# Altium schematic symbol library PS v1.0.SchLib: 6 symbols
Pins are listed as number, name and electrical type; pins without a type are passive.

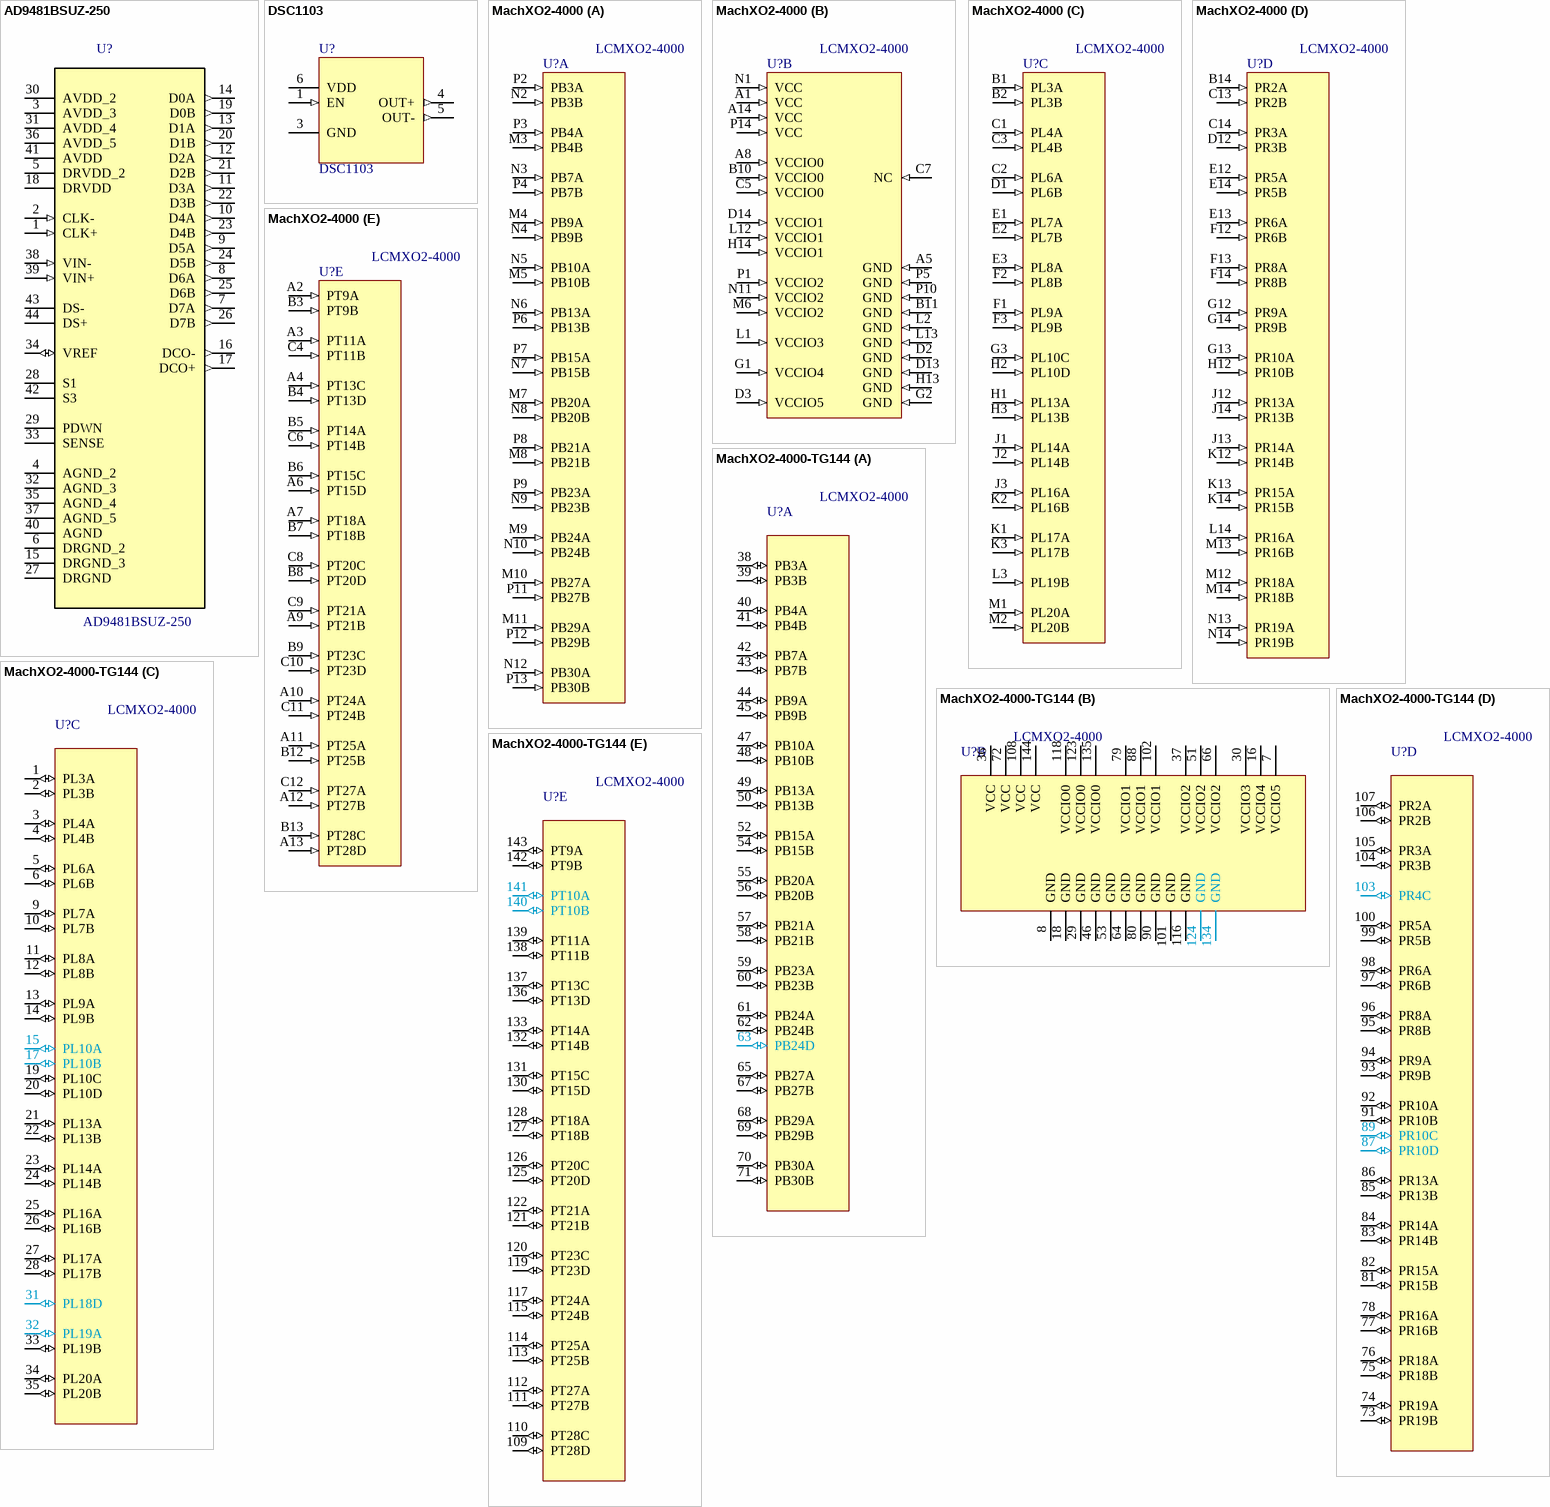
[diagram p0: symbols AD9481BSUZ-250 to MachXO2-4000-TG144]

## AD9481BSUZ-250
designator U?
Single ADC Pipelined 250Msps 8-bit Parallel/LVDS 44-Pin TQFP Tray; VENDOR: DigiKey; MANF: Analog Devices Inc.; VENDOR_PN: AD9481BSUZ-250-ND; MANF_PN: AD9481BSUZ-250
footprint QFP80P1200X1200X120-44N
pins: 1 CLK+ (in), 2 CLK- (in), 3 AVDD_3 (power), 4 AGND_2, 5 DRVDD_2 (power), 6 DRGND_2, 7 D7A (out), 8 D6A (out), 9 D5A (out), 10 D4A (out), 11 D3A (out), 12 D2A (out), 13 D1A (out), 14 D0A (out), 15 DRGND_3, 16 DCO- (out), 17 DCO+ (out), 18 DRVDD (power), 19 D0B (out), 20 D1B (out), 21 D2B (out), 22 D3B (out), 23 D4B (out), 24 D5B (out), 25 D6B (out), 26 D7B (out), 27 DRGND, 28 S1, 29 PDWN, 30 AVDD_2 (power), 31 AVDD_4 (power), 32 AGND_3, 33 SENSE, 34 VREF (io), 35 AGND_4, 36 AVDD_5 (power), 37 AGND_5, 38 VIN- (in), 39 VIN+ (in), 40 AGND, 41 AVDD (power), 42 S3, 43 DS-, 44 DS+

## DSC1103
designator U?
VENDOR: Mouser; MANF: Microchip Technology; MANF_PN: DSC1103CI3-250.0000; VENDOR_PN: 579-1103CI32500000
footprint MCHP_H5A (6-VDFN, 3.2x2.5mm (Microchip Case H5A))
pins: 1 EN (in), 3 GND (power), 4 OUT+ (out), 5 OUT- (out), 6 VDD (power)

## MachXO2-4000
designator U?, comment LCMXO2-4000
MANF_PN: LCMXO2-4000HC-4MG132C; MANF: Lattice Semiconductor; VENDOR: DigiKey; VENDOR_PN: 220-1458-ND
footprint 132_Ball_csBGA_MachXO2 (BGA, 132-Leads, Body 8.00x8.00mmx1.35mm, Pitch 0.50mm)
part A pins: M3 PB4B (in), M4 PB9A (in), M5 PB10B (in), M7 PB20A (in), M8 PB21B (in), M9 PB24A (in), M10 PB27A (in), M11 PB29A (in), N2 PB3B (in), N3 PB7A (in), N4 PB9B (in), N5 PB10A (in), N6 PB13A (in), N7 PB15B (in), N8 PB20B (in), N9 PB23B (in), N10 PB24B (in), N12 PB30A (in), P2 PB3A (in), P3 PB4A (in), P4 PB7B (in), P6 PB13B (in), P7 PB15A (in), P8 PB21A (in), P9 PB23A (in), P11 PB27B (in), P12 PB29B (in), P13 PB30B (in)
part B pins: A1 VCC (in), A5 GND (in), A8 VCCIO0 (in), A14 VCC (in), B10 VCCIO0 (in), B11 GND (in), C5 VCCIO0 (in), C7 NC (in), D2 GND (in), D3 VCCIO5 (in), D13 GND (in), D14 VCCIO1 (in), G1 VCCIO4 (in), G2 GND (in), H13 GND (in), H14 VCCIO1 (in), L1 VCCIO3 (in), L2 GND (in), L12 VCCIO1 (in), L13 GND (in), M6 VCCIO2 (in), N1 VCC (in), N11 VCCIO2 (in), P1 VCCIO2 (in), P5 GND (in), P10 GND (in), P14 VCC (in)
part C pins: B1 PL3A (in), B2 PL3B (in), C1 PL4A (in), C2 PL6A (in), C3 PL4B (in), D1 PL6B (in), E1 PL7A (in), E2 PL7B (in), E3 PL8A (in), F1 PL9A (in), F2 PL8B (in), F3 PL9B (in), G3 PL10C (in), H1 PL13A (in), H2 PL10D (in), H3 PL13B (in), J1 PL14A (in), J2 PL14B (in), J3 PL16A (in), K1 PL17A (in), K2 PL16B (in), K3 PL17B (in), L3 PL19B (in), M1 PL20A (in), M2 PL20B (in)
part D pins: B14 PR2A (in), C13 PR2B (in), C14 PR3A (in), D12 PR3B (in), E12 PR5A (in), E13 PR6A (in), E14 PR5B (in), F12 PR6B (in), F13 PR8A (in), F14 PR8B (in), G12 PR9A (in), G13 PR10A (in), G14 PR9B (in), H12 PR10B (in), J12 PR13A (in), J13 PR14A (in), J14 PR13B (in), K12 PR14B (in), K13 PR15A (in), K14 PR15B (in), L14 PR16A (in), M12 PR18A (in), M13 PR16B (in), M14 PR18B (in), N13 PR19A (in), N14 PR19B (in)
part E pins: A2 PT9A (in), A3 PT11A (in), A4 PT13C (in), A6 PT15D (in), A7 PT18A (in), A9 PT21B (in), A10 PT24A (in), A11 PT25A (in), A12 PT27B (in), A13 PT28D (in), B3 PT9B (in), B4 PT13D (in), B5 PT14A (in), B6 PT15C (in), B7 PT18B (in), B8 PT20D (in), B9 PT23C (in), B12 PT25B (in), B13 PT28C (in), C4 PT11B (in), C6 PT14B (in), C8 PT20C (in), C9 PT21A (in), C10 PT23D (in), C11 PT24B (in), C12 PT27A (in)

## MachXO2-4000-TG144
designator U?, comment LCMXO2-4000
MANF_PN: LCMXO2-4000HC-4TG144C; MANF: Lattice Semiconductor Corporation; VENDOR: DigiKey; VENDOR_PN: 220-1460-ND
footprint UL_TQFP144
part A pins: 38 PB3A (io), 39 PB3B (io), 40 PB4A (io), 41 PB4B (io), 42 PB7A (io), 43 PB7B (io), 44 PB9A (io), 45 PB9B (io), 47 PB10A (io), 48 PB10B (io), 49 PB13A (io), 50 PB13B (io), 52 PB15A (io), 54 PB15B (io), 55 PB20A (io), 56 PB20B (io), 57 PB21A (io), 58 PB21B (io), 59 PB23A (io), 60 PB23B (io), 61 PB24A (io), 62 PB24B (io), 63 PB24D (io), 65 PB27A (io), 67 PB27B (io), 68 PB29A (io), 69 PB29B (io), 70 PB30A (io), 71 PB30B (io)
part B pins: 7 VCCIO5 (power), 8 GND (power), 16 VCCIO4 (power), 18 GND (power), 29 GND (power), 30 VCCIO3 (power), 36 VCC (power), 37 VCCIO2 (power), 46 GND (power), 51 VCCIO2 (power), 53 GND (power), 64 GND (power), 66 VCCIO2 (power), 72 VCC (power), 79 VCCIO1 (power), 80 GND (power), 88 VCCIO1 (power), 90 GND (power), 101 GND (power), 102 VCCIO1 (power), 108 VCC (power), 116 GND (power), 118 VCCIO0 (power), 123 VCCIO0 (power), 124 GND (power), 134 GND (power), 135 VCCIO0 (power), 144 VCC (power)
part C pins: 1 PL3A (io), 2 PL3B (io), 3 PL4A (io), 4 PL4B (io), 5 PL6A (io), 6 PL6B (io), 9 PL7A (io), 10 PL7B (io), 11 PL8A (io), 12 PL8B (io), 13 PL9A (io), 14 PL9B (io), 15 PL10A (io), 17 PL10B (io), 19 PL10C (io), 20 PL10D (io), 21 PL13A (io), 22 PL13B (io), 23 PL14A (io), 24 PL14B (io), 25 PL16A (io), 26 PL16B (io), 27 PL17A (io), 28 PL17B (io), 31 PL18D (io), 32 PL19A (io), 33 PL19B (io), 34 PL20A (io), 35 PL20B (io)
part D pins: 73 PR19B (io), 74 PR19A (io), 75 PR18B (io), 76 PR18A (io), 77 PR16B (io), 78 PR16A (io), 81 PR15B (io), 82 PR15A (io), 83 PR14B (io), 84 PR14A (io), 85 PR13B (io), 86 PR13A (io), 87 PR10D (io), 89 PR10C (io), 91 PR10B (io), 92 PR10A (io), 93 PR9B (io), 94 PR9A (io), 95 PR8B (io), 96 PR8A (io), 97 PR6B (io), 98 PR6A (io), 99 PR5B (io), 100 PR5A (io), 103 PR4C (io), 104 PR3B (io), 105 PR3A (io), 106 PR2B (io), 107 PR2A (io)
part E pins: 109 PT28D (io), 110 PT28C (io), 111 PT27B (io), 112 PT27A (io), 113 PT25B (io), 114 PT25A (io), 115 PT24B (io), 117 PT24A (io), 119 PT23D (io), 120 PT23C (io), 121 PT21B (io), 122 PT21A (io), 125 PT20D (io), 126 PT20C (io), 127 PT18B (io), 128 PT18A (io), 130 PT15D (io), 131 PT15C (io), 132 PT14B (io), 133 PT14A (io), 136 PT13D (io), 137 PT13C (io), 138 PT11B (io), 139 PT11A (io), 140 PT10B (io), 141 PT10A (io), 142 PT9B (io), 143 PT9A (io)

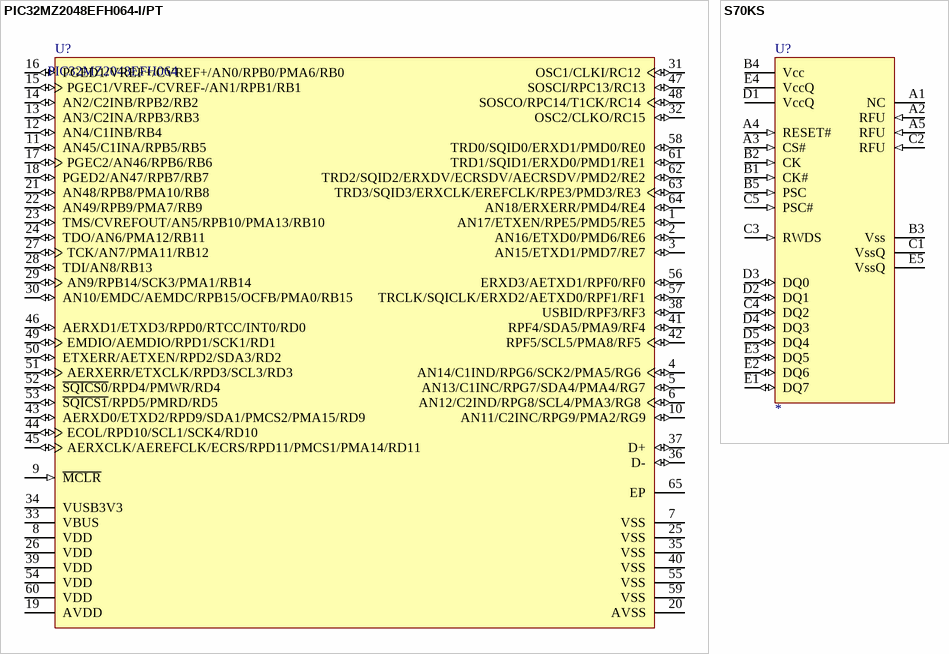
[diagram p1: symbols PIC32MZ2048EFH064-I/PT to S70KS]

## PIC32MZ2048EFH064-I/PT
designator U?, comment PIC32MZ2048EFH064
Microchip PIC32MZ EF Series 64-pin; VENDOR_PN: PIC32MZ2048EFH064-I/PT-ND; MANF_PN: PIC32MZ2048EFH064-I/PT; MANF: Microchip Technology; VENDOR: DigiKey
footprint QFN50P900X900-64N (QFN, 64-Leads, Body 9.00x9.00mm, Pitch 0.50mm, IPC Medium Density)
pins: 1 AN17/ETXEN/RPE5/PMD5/RE5 (io), 2 AN16/ETXD0/PMD6/RE6 (io), 3 AN15/ETXD1/PMD7/RE7 (io), 4 AN14/C1IND/RPG6/SCK2/PMA5/RG6 (io), 5 AN13/C1INC/RPG7/SDA4/PMA4/RG7 (io), 6 AN12/C2IND/RPG8/SCL4/PMA3/RG8 (io), 7 VSS (power) "Ground reference for logic, I/O pins, and USB. This pin must be connected at all times.", 8 VDD (power) "Positive supply for peripheral logic and I/O pins. This pin must be connected at all times.", 9 ~{MCLR} (in) "Master Clear (Reset) input. This pin is an active-low Reset to the device.", 10 AN11/C2INC/RPG9/PMA2/RG9 (io), 11 AN45/C1INA/RPB5/RB5 (io), 12 AN4/C1INB/RB4 (io), 13 AN3/C2INA/RPB3/RB3 (io), 14 AN2/C2INB/RPB2/RB2 (io), 15 PGEC1/VREF-/CVREF-/AN1/RPB1/RB1 (io), 16 PGED1/VREF+/CVREF+/AN0/RPB0/PMA6/RB0 (io), 17 PGEC2/AN46/RPB6/RB6 (io), 18 PGED2/AN47/RPB7/RB7 (io), 19 AVDD (power) "Positive supply for analog modules. This pin must be connected at all times.", 20 AVSS (power) "Ground reference for analog modules. This pin must be connected at all times.", 21 AN48/RPB8/PMA10/RB8 (io), 22 AN49/RPB9/PMA7/RB9 (io), 23 TMS/CVREFOUT/AN5/RPB10/PMA13/RB10 (io), 24 TDO/AN6/PMA12/RB11 (io), 25 VSS (power) "Ground reference for logic, I/O pins, and USB. This pin must be connected at all times.", 26 VDD (power) "Positive supply for peripheral logic and I/O pins. This pin must be connected at all times.", 27 TCK/AN7/PMA11/RB12 (io), 28 TDI/AN8/RB13 (io), 29 AN9/RPB14/SCK3/PMA1/RB14 (io), 30 AN10/EMDC/AEMDC/RPB15/OCFB/PMA0/RB15 (io), 31 OSC1/CLKI/RC12 (io), 32 OSC2/CLKO/RC15 (io), 33 VBUS (power) "USB bus power monitor", 34 VUSB3V3 (power) "USB internal transceiver supply. If the USB module is not used, this pin must be connected to VSS.", 35 VSS (power) "Ground reference for logic, I/O pins, and USB. This pin must be connected at all times.", 36 D- (io) "USB D-", 37 D+ (io) "USB D+", 38 USBID/RPF3/RF3 (io), 39 VDD (power) "Positive supply for peripheral logic and I/O pins. This pin must be connected at all times.", 40 VSS (power) "Ground reference for logic, I/O pins, and USB. This pin must be connected at all times.", 41 RPF4/SDA5/PMA9/RF4 (io), 42 RPF5/SCL5/PMA8/RF5 (io), 43 AERXD0/ETXD2/RPD9/SDA1/PMCS2/PMA15/RD9 (io), 44 ECOL/RPD10/SCL1/SCK4/RD10 (io), 45 AERXCLK/AEREFCLK/ECRS/RPD11/PMCS1/PMA14/RD11 (io), 46 AERXD1/ETXD3/RPD0/RTCC/INT0/RD0 (io), 47 SOSCI/RPC13/RC13 (io), 48 SOSCO/RPC14/T1CK/RC14 (io), 49 EMDIO/AEMDIO/RPD1/SCK1/RD1 (io), 50 ETXERR/AETXEN/RPD2/SDA3/RD2 (io), 51 AERXERR/ETXCLK/RPD3/SCL3/RD3 (io), 52 ~{SQICS0}/RPD4/PMWR/RD4 (io), 53 ~{SQICS1}/RPD5/PMRD/RD5 (io), 54 VDD (power) "Positive supply for peripheral logic and I/O pins. This pin must be connected at all times.", 55 VSS (power) "Ground reference for logic, I/O pins, and USB. This pin must be connected at all times.", 56 ERXD3/AETXD1/RPF0/RF0 (io), 57 TRCLK/SQICLK/ERXD2/AETXD0/RPF1/RF1 (io), 58 TRD0/SQID0/ERXD1/PMD0/RE0 (io), 59 VSS (power) "Ground reference for logic, I/O pins, and USB. This pin must be connected at all times.", 60 VDD (power) "Positive supply for peripheral logic and I/O pins. This pin must be connected at all times.", 61 TRD1/SQID1/ERXD0/PMD1/RE1 (io), 62 TRD2/SQID2/ERXDV/ECRSDV/AECRSDV/PMD2/RE2 (io), 63 TRD3/SQID3/ERXCLK/EREFCLK/RPE3/PMD3/RE3 (io), 64 AN18/ERXERR/PMD4/RE4 (io), 65 EP (power)

## S70KS
designator U?
VENDOR: DigiKey; VENDOR_PN: 2015-S70KS1281DPBHV020-ND; MANF: Cypress; MANF_PN: S70KS1281DPBHV020
footprint Cypress-VAA024
pins: A1 NC, A2 RFU (in), A3 CS# (in), A4 RESET# (in), A5 RFU (in), B1 CK# (in), B2 CK (in), B3 Vss (power), B4 Vcc (power), B5 PSC (in), C1 VssQ (power), C2 RFU (in), C3 RWDS (in), C4 DQ2 (io), C5 PSC# (in), D1 VccQ (power), D2 DQ1 (io), D3 DQ0 (io), D4 DQ3 (io), D5 DQ4 (io), E1 DQ7 (io), E2 DQ6 (io), E3 DQ5 (io), E4 VccQ (power), E5 VssQ (power)